# EAGLE library part CAMERA_CONNECTOR (library !Treadmill)
Optical Flow Meter Camera Interface Block
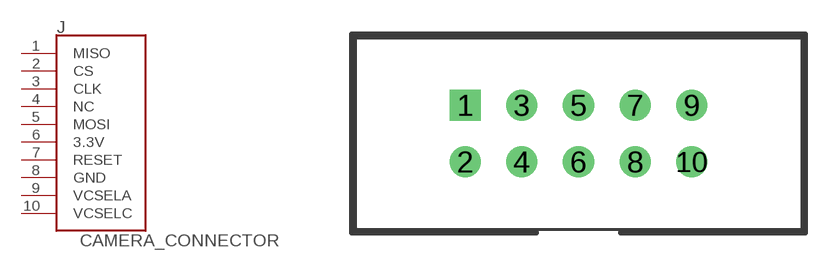
[diagram p6: symbol with the pads of 3M_2510-6002UB; footprint 3M_2510-6002UB]

Designator prefix J

## CAMERA_CONNECTOR  [3M_2510-6002UB]
1  MISO  out
2  CS  in
3  CLK  in
4  NC  nc
5  MOSI  in
6  3.3V  pwr
7  RESET  in
8  GND  pwr
9  VCSELA
10  VCSELC

## Footprint 3M_2510-6002UB (pad centres in mm)
Shrouded, rectified, 0.1" pitch header 2x5 pins
drill 0.889 square: 1 -5.08,1.27
drill 0.889 round: 2 -5.08,-1.27; 3 -2.54,1.27; 4 -2.54,-1.27; 5 0,1.27; 6 0,-1.27; 7 2.54,1.27; 8 2.54,-1.27; 9 5.08,1.27; 10 5.08,-1.27